# Altium footprint library VOLTAGE_REG(1.8-5.5V, BUCK_BST, 3.3V, 3.5A, 14VSON).PcbLib: 1 footprints
Each footprint in its own frame and in the unit in brackets; x right, y up, seen from the top. Pads: shape width x height; smd on the part's side, far side on the other; paste and mask are expansions set on the pad; w line width, h text height; cw(c..) or ccw(c..) is an arc to the next point about the centre after c.
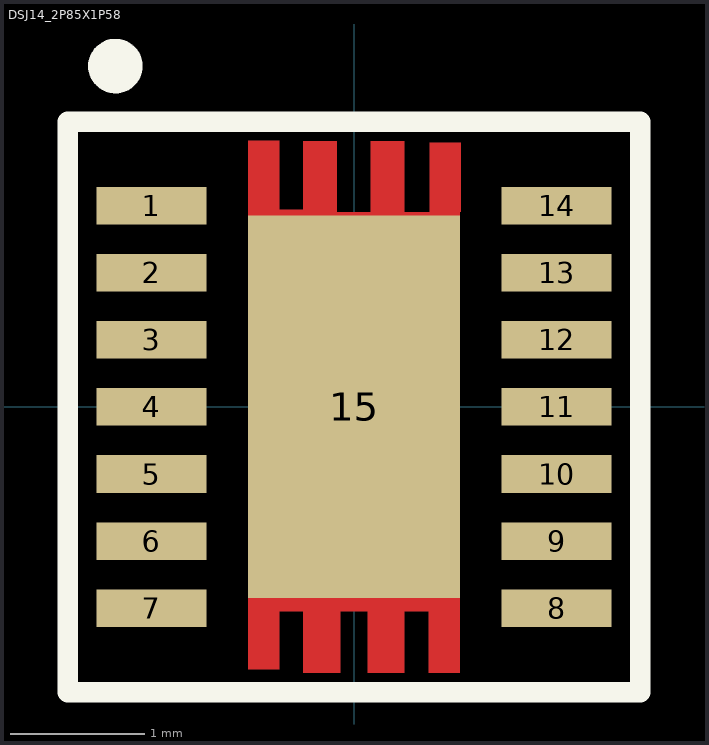
[diagram p0: the footprint, top view; thin cyan lines are the x and y axes]

## DSJ14_2P85X1P58 [mm]
pads (15):
  rect 0.82x0.28 smd mask+0.051: 1(-1.51,1.5) 2(-1.51,1) 3(-1.51,0.5) 4(-1.51,0) 5(-1.51,-0.5) 6(-1.51,-1) 7(-1.51,-1.5) 8(1.51,-1.5) 9(1.51,-1) 10(1.51,-0.5) 11(1.51,0) 12(1.51,0.5) 13(1.51,1) 14(1.51,1.5)
  rect 1.58x2.85 smd: 15(0,0)
Top Layer:
  region: 0.559,-1.981 0.559,-1.523 0.787,-1.523 0.787,-1.981
  region: -0.787,-1.956 -0.787,-1.522 -0.559,-1.522 -0.559,-1.956
  region: 0.565,1.454 0.565,1.97 0.794,1.97 0.794,1.454
  region: -0.787,1.471 -0.787,1.983 -0.559,1.983 -0.559,1.471
  region: 0.373,1.452 0.787,1.456 0.787,-1.522 0.373,-1.522 0.373,-1.981 0.102,-1.981 0.102,-1.522 -0.102,-1.522 -0.102,-1.981 -0.377,-1.981 -0.377,-1.522 -0.787,-1.522 -0.787,1.471 -0.377,1.472 -0.377,1.981 -0.127,1.981 -0.127,1.452 0.123,1.452 0.123,1.981 0.373,1.981
Top Overlay:
  circle w0.254: c-1.778,2.54 r0.076
  lines w0.152: -2.134,-2.126 2.134,-2.126 2.134,2.126 -2.134,2.126 -2.134,-2.126
Top Paste:
  region: 0.56,-1.975 0.56,-1.527 0.79,-1.527 0.79,-1.975
  region: -0.56,-1.975 -0.56,-1.527 -0.79,-1.527 -0.79,-1.975
  region: 0.11,-1.975 0.11,-1.527 0.34,-1.527 0.34,-1.975
  region: -0.11,-1.975 -0.11,-1.527 -0.34,-1.527 -0.34,-1.975
  region: 0.56,1.975 0.56,1.527 0.79,1.527 0.79,1.975
  region: -0.56,1.975 -0.56,1.527 -0.79,1.527 -0.79,1.975
  region: 0.11,1.975 0.11,1.527 0.34,1.527 0.34,1.975
  region: -0.11,1.975 -0.11,1.527 -0.34,1.527 -0.34,1.975
Top Solder:
  region: -0.458,2.077 -0.458,1.323 -0.892,1.323 -0.892,2.077
  region: 0.458,-2.077 0.458,-1.323 0.892,-1.323 0.892,-2.077
  region: -0.458,-2.077 -0.458,-1.323 -0.892,-1.323 -0.892,-2.077
  region: 0.008,-2.077 0.008,-1.323 0.442,-1.323 0.442,-2.077
  region: -0.008,-2.077 -0.008,-1.323 -0.442,-1.323 -0.442,-2.077
  region: 0.458,2.077 0.458,1.323 0.892,1.323 0.892,2.077
  region: 0.008,2.077 0.008,1.323 0.442,1.323 0.442,2.077
  region: -0.008,2.077 -0.008,1.323 -0.442,1.323 -0.442,2.077
3D body "TPS63021DSJT.step": height 1, standoff 0, extent -1.5,-2 1.5,2